# Altium schematic symbol library Misc Connector Terminal.SchLib: 1 symbol
Pins are listed as number, name and electrical type; pins without a type are passive.

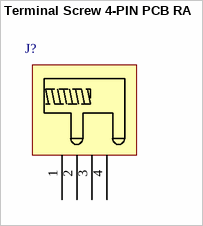
[diagram p0: symbol Terminal Screw 4-PIN PCB RA]

## Terminal Screw 4-PIN PCB RA
designator J?
Terminal Screw 4-PIN, Thru Hole, PCB Right Angle
footprint TERMSCREW4-B11.5X8.5X7.8mm/T5.0X7.5mm/RA (Terminal Screw, 4-PIN, Body 11.5mm(L) * 8.5mm(W) * 7.8mm(H), Thru Hole, 5.0mm * 7.5mm Pitch, Right Angle)
footprint TERMSCREW4-B11.5X8.5X7.8mm/T5.0X7.5mm/RA (Terminal Screw, 4-PIN, Body 11.5mm(L) * 8.5mm(W) * 7.8mm(H), Thru Hole, 5.0mm * 7.5mm Pitch, Right Angle)
pins: 1, 2, 3, 4